# Altium footprint library EEE-1VA100WR.PcbLib: 4 footprints
Each footprint in its own frame and in the unit in brackets; x right, y up, seen from the top. Pads: shape width x height; smd on the part's side, far side on the other; paste and mask are expansions set on the pad; w line width, h text height; cw(c..) or ccw(c..) is an arc to the next point about the centre after c.
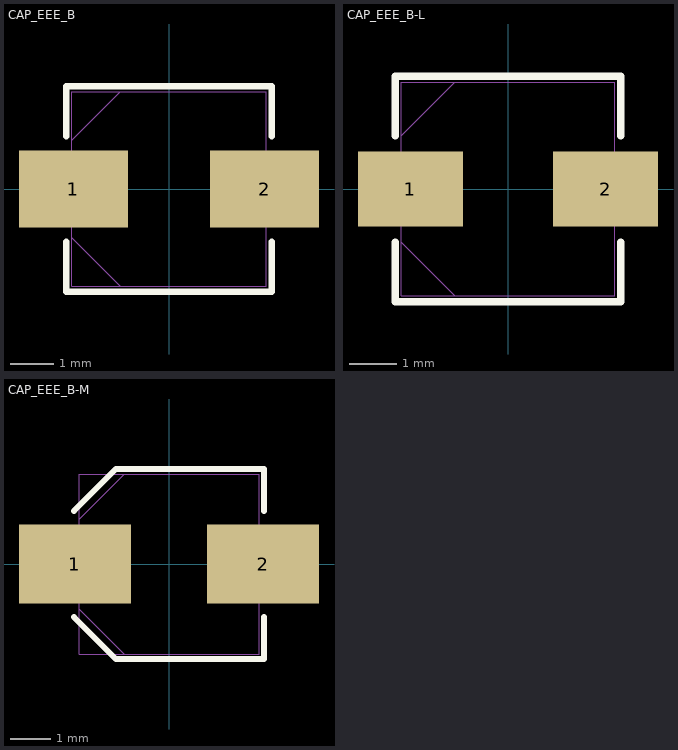
[diagram p0: the footprints below, top view; thin cyan lines are the x and y axes]

## CAP_EEE_B [mil]
pads (2):
  rect 99x70 smd: 1(-87,0) 2(87,0)
Top Layer keep-out:
  region: 
  region: 
  region: 
Top Overlay:
  lines w6: -93.5,-48.1 -93.5,-93.5 93.5,-93.5 93.5,-48.1 ; -93.5,48.1 -93.5,93.5 93.5,93.5 93.5,48.1
Mechanical 1:
  lines w1: -88.5,-44.25 -44.25,-88.5 ; -88.5,44.25 -44.25,88.5 ; -88.5,-88.5 88.5,-88.5 88.5,88.5 -88.5,88.5 -88.5,-88.5

## CAP_EEE_B-L [mil]
pads (2):
  rect 87x62 smd: 1(-81,0) 2(81,0)
Top Layer keep-out:
  region: 
  region: 
  region: 
Top Overlay:
  lines w6: -93.5,-44.1 -93.5,-93.5 93.5,-93.5 93.5,-44.1 ; -93.5,44.1 -93.5,93.5 93.5,93.5 93.5,44.1
Mechanical 1:
  lines w1: -88.5,-44.25 -44.25,-88.5 ; -88.5,44.25 -44.25,88.5 ; -88.5,-88.5 88.5,-88.5 88.5,88.5 -88.5,88.5 -88.5,-88.5

## CAP_EEE_B-M [mil]
pads (2):
  rect 110x78 smd: 1(-92.5,0) 2(92.5,0)
Top Layer keep-out:
  region: 
  region: 
  region: 
Top Overlay:
  lines w6: -93.5,-52.1 -52.1,-93.5 93.5,-93.5 93.5,-52.1 ; -93.5,52.1 -52.1,93.5 93.5,93.5 93.5,52.1
Mechanical 1:
  lines w1: -88.5,-44.25 -44.25,-88.5 ; -88.5,44.25 -44.25,88.5 ; -88.5,-88.5 88.5,-88.5 88.5,88.5 -88.5,88.5 -88.5,-88.5

## PCBComponent_1 [mil]